# EAGLE library part 36PINEDGE-90 (library 838_Components)
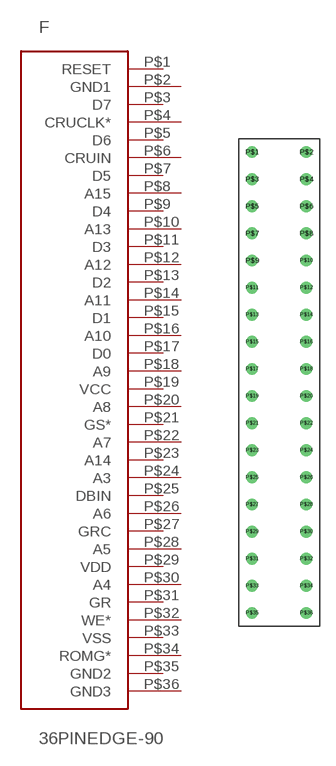
[diagram p0: symbol with the pads of 36PINEDGE-90; footprint 36PINEDGE-90]

Designator prefix F

## 36PINEDGE-9036PINEDGE-90F  [36PINEDGE-90]
P$1  RESET
P$2  GND1
P$3  D7
P$4  CRUCLK*
P$5  D6
P$6  CRUIN
P$7  D5
P$8  A15
P$9  D4
P$10  A13
P$11  D3
P$12  A12
P$13  D2
P$14  A11
P$15  D1
P$16  A10
P$17  D0
P$18  A9
P$19  VCC
P$20  A8
P$21  GS*
P$22  A7
P$23  A14
P$24  A3
P$25  DBIN
P$26  A6
P$27  GRC
P$28  A5
P$29  VDD
P$30  A4
P$31  GR
P$32  WE*
P$33  VSS
P$34  ROMG*
P$35  GND2
P$36  GND3

## Footprint 36PINEDGE-90 (pad centres in mm)
drill 0.6: P$1 -35.56,10.16; P$2 -30.48,10.16; P$3 -35.56,7.62; P$4 -30.48,7.62; P$5 -35.56,5.08; P$6 -30.48,5.08; P$7 -35.56,2.54; P$8 -30.48,2.54; P$9 -35.56,0; P$10 -30.48,0; P$11 -35.56,-2.54; P$12 -30.48,-2.54; P$13 -35.56,-5.08; P$14 -30.48,-5.08; P$15 -35.56,-7.62; P$16 -30.48,-7.62; P$17 -35.56,-10.16; P$18 -30.48,-10.16; P$19 -35.56,-12.7; P$20 -30.48,-12.7; P$21 -35.56,-15.24; P$22 -30.48,-15.24; P$23 -35.56,-17.78; P$24 -30.48,-17.78; P$25 -35.56,-20.32; P$26 -30.48,-20.32; P$27 -35.56,-22.86; P$28 -30.48,-22.86; P$29 -35.56,-25.4; P$30 -30.48,-25.4; P$31 -35.56,-27.94; P$32 -30.48,-27.94; P$33 -35.56,-30.48; P$34 -30.48,-30.48; P$35 -35.56,-33.02; P$36 -30.48,-33.02